# Altium schematic symbol library 10127820-0821LF.SchLib: 1 symbol
Pins are listed as number, name and electrical type; pins without a type are passive.

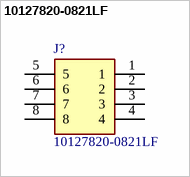
[diagram p0: symbol 10127820-0821LF]

## 10127820-0821LF
designator J?
Minitek<sup></sup> Pwr 4.2, Dual Row, Vertical Through Hole Header, Gold Flash plating, Natural Color, 8 Positions, Non GW Compatible Nylon66, Tray Packing.; Manufacturer_Name: Amphenol Communications Solutions; Geometry.Height: 14.65mm; Mouser Part Number: *; Mouser Price/Stock: *; Manufacturer_Part_Number: 10127820-0821LF; Datasheet Link: https://cdn.amphenol-cs.com/media/wysiwyg/files/drawing/10127820.pdf
footprint 101278200821LF
pins: 1, 2, 3, 4, 5, 6, 7, 8